# EAGLE library part 52465-1071 (library molex_2020)
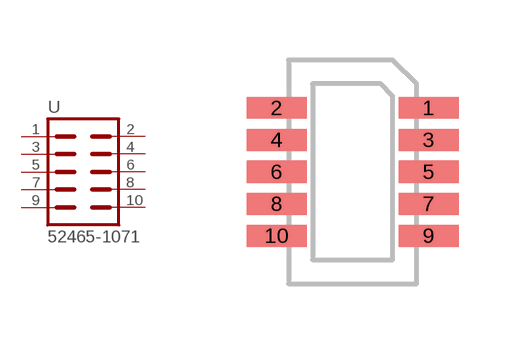
[diagram p4: symbol with the pads of 5265-1071; footprint 5265-1071]

Designator prefix -

## 52465-1071  [5265-1071]
1  1  pas
2  2  pas
3  3  pas
4  4  pas
5  5  pas
6  6  pas
7  7  pas
8  8  pas
9  9  pas
10  10  pas

## Footprint 5265-1071 (pad centres in mm)
smd 1.5 x 0.55: 1 1.9,1.6; 2 -1.9,1.6; 3 1.9,0.8; 4 -1.9,0.8; 5 1.9,0; 6 -1.9,0; 7 1.9,-0.8; 8 -1.9,-0.8; 9 1.9,-1.6; 10 -1.9,-1.6